# Altium integrated library Big_Library_Cap_Electrolytic_SMD.IntLib: 8 symbols
Pins are listed as number, name and electrical type; pins without a type are passive.

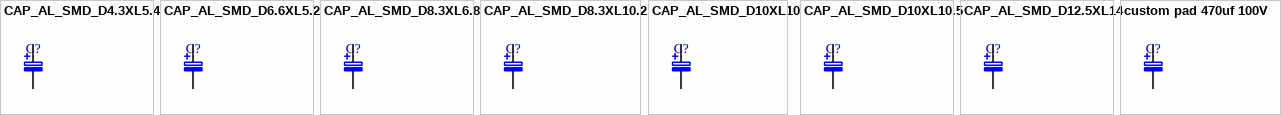
[diagram p0: symbols CAP_AL_SMD_D4.3XL5.4 to custom pad 470uf 100V]

## CAP_AL_SMD_D4.3XL5.4
designator C?
Aluminum Electrolytic SMD Capacitor; Dimensions: 4.3X5.40; ComponentLink1Description: Link
footprint CAP ALSMD 4.3MM H5.4MM (Aluminum Electrolytic Capacitor, Body 4.30x4.30x5.40mm, IPC Low Density)
pins: 1 +, 2 -

## CAP_AL_SMD_D6.6XL5.2
designator C?
Aluminum Electrolytic SMD Capacitor; Dimensions: 4.3X5.40; ComponentLink1Description: Link
footprint CAP ALSMD ELEC 6.6MM H5.2MM (Aluminum SMD Electrolytic Capacitor, 6.60mm Land Size, 6.30mm Diameter, 5.20mm Height, 8.00mm Maximum Leads Span)
pins: 1 +, 2 -

## CAP_AL_SMD_D8.3XL6.8
designator C?
Aluminum Electrolytic SMD Capacitor; ComponentLink1Description: Link; Dimensions: 8.3X6.8mm
footprint CAP ALSMD ELEC 8.3MM H6.8MM (Aluminum SMD Electrolytic Capacitor, 8.30mm Land Size, 8.00mm Diameter, 6.80mm Height, 10.00mm Maximum Leads Span)
pins: 1 +, 2 -

## CAP_AL_SMD_D8.3XL10.2
designator C?
Aluminum Electrolytic SMD Capacitor; ComponentLink1Description: Link; Dimensions: 8.3X10.2mm
footprint CAP ALSMD ELEC 8.3MM H10.2MM (Aluminum SMD Electrolytic Capacitor, 8.30mm Land Size, 8.00mm Diameter, 10.20mm Height, 10.00mm Maximum Leads Span)
pins: 1 +, 2 -

## CAP_AL_SMD_D10XL10
designator C?
Aluminum Electrolytic SMD Capacitor; ComponentLink1Description: Link; Dimensions: 10X10
footprint CAP ALSMD ELEC 10MM H10MM (Aluminum SMD Electrolytic Capacitor, 10.00mm Land Size, 10.00mm Diameter, 10.00mm Height, 12.10mm Maximum Leads Span)
pins: 1 +, 2 -

## CAP_AL_SMD_D10XL10.5
designator C?
Aluminum Electrolytic SMD Capacitor; ComponentLink1Description: Link; Dimensions: 10X10.5
footprint CAP ALSMD ELEC 10MM H10.5MM (Aluminum SMD Electrolytic Capacitor, 10.00mm Land Size, 10.00mm Diameter, 10.50mm Height, 12.10mm Maximum Leads Span)
pins: 1 +, 2 -

## CAP_AL_SMD_D12.5XL14
designator C?
Aluminum Electrolytic SMD Capacitor; ComponentLink1Description: Link; Dimensions: 12.5X14
footprint CAP ALSMD ELEC 12.5MM H14MM (Aluminum SMD Electrolytic Capacitor, 12.50mm Land Size, 12.50mm Diameter, 14.00mm Height, 14.90mm Maximum Leads Span)
pins: 1 +, 2 -

## custom pad 470uf 100V
designator C?
Aluminum Electrolytic SMD Capacitor; Dimensions: 4.3X5.40; ComponentLink1Description: Link
footprint custom pad 16x31.5x7.5
pins: 1 +, 2 -